# EAGLE library part FDG316P (library Fairchild)
P-Channel Logic Level PowerTrench® MOSFET -1.6 A, -30 V RDS(ON) = 0.19 Ω @ VGS = -10 V RDS(ON) = 0.30 Ω @ VGS = -4.5 V Low gate charge (3.5nC typical) From Fairchild document FDG316P.pdf, Oct 2001
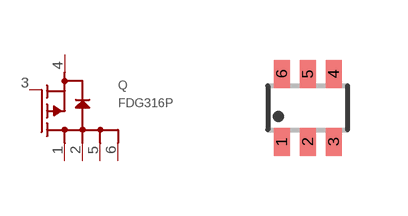
[diagram p1: symbol with the pads of SC70-6; footprint SC70-6]

Designator prefix Q

## FDG316P  [SC70-6]
1  D1
2  D2
3  G
4  S1
5  D3
6  D4

## Footprint SC70-6 (pad centres in mm)
SMT SC70-5 SOT353 - Philips Semiconductors Source: http://www.semiconductors.philips.com/acrobat_download/datasheets/74HC_HCT1G66_3.pdf
smd 0.4 x 0.7: 1 -0.65,-0.85; 2 0,-0.85; 3 0.65,-0.85; 4 0.65,0.85; 5 0,0.85; 6 -0.65,0.85